# EAGLE library part TX24-100R-6ST-H1E (library EW_Connectors)
CONN RCPT 1.27MM 100POS GOLD PCB
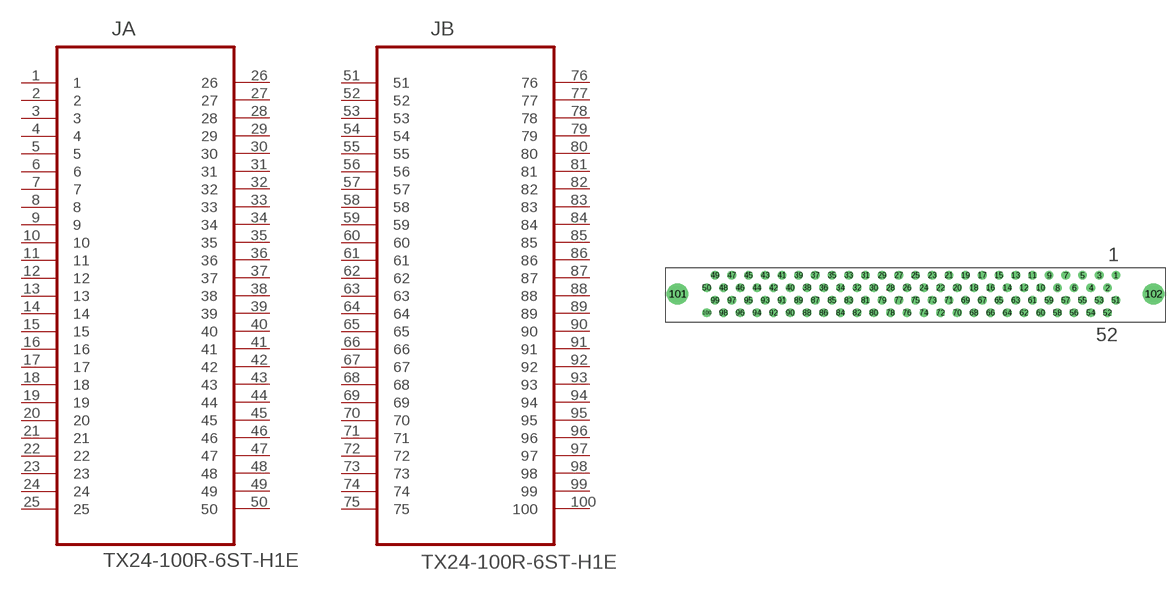
[diagram p40: symbol with the pads of JAE_TX24-100R-6ST-H1E; footprint JAE_TX24-100R-6ST-H1E]

Designator prefix J; gates A=TX24-100R-6ST-H1E_A B=TX24-100R-6ST-H1E_B

## TX24-100R-6ST-H1E (DATASHEETLINK: http://www.jae.com/z-en/pdf_download_exec.cfm?param=SJ038253.pdf; DESCRIPTION: CONN-100POS; MPN: TX24-100R-6ST-H1E; OC_FARNELL: 1519625; OC_NEWARK: 74M4873; ROHS: Yes; SUPPLIER: JAE)  [JAE_TX24-100R-6ST-H1E]
1  A:1  pas
2  A:2  pas
3  A:3  pas
4  A:4  pas
5  A:5  pas
6  A:6  pas
7  A:7  pas
8  A:8  pas
9  A:9  pas
10  A:10  pas
11  A:11  pas
12  A:12  pas
13  A:13  pas
14  A:14  pas
15  A:15  pas
16  A:16  pas
17  A:17  pas
18  A:18  pas
19  A:19  pas
20  A:20  pas
21  A:21  pas
22  A:22  pas
23  A:23  pas
24  A:24  pas
25  A:25  pas
26  A:26  pas
27  A:27  pas
28  A:28  pas
29  A:29  pas
30  A:30  pas
31  A:31  pas
32  A:32  pas
33  A:33  pas
34  A:34  pas
35  A:35  pas
36  A:36  pas
37  A:37  pas
38  A:38  pas
39  A:39  pas
40  A:40  pas
41  A:41  pas
42  A:42  pas
43  A:43  pas
44  A:44  pas
45  A:45  pas
46  A:46  pas
47  A:47  pas
48  A:48  pas
49  A:49  pas
50  A:50  pas
51  B:51  pas
52  B:52  pas
53  B:53  pas
54  B:54  pas
55  B:55  pas
56  B:56  pas
57  B:57  pas
58  B:58  pas
59  B:59  pas
60  B:60  pas
61  B:61  pas
62  B:62  pas
63  B:63  pas
64  B:64  pas
65  B:65  pas
66  B:66  pas
67  B:67  pas
68  B:68  pas
69  B:69  pas
70  B:70  pas
71  B:71  pas
72  B:72  pas
73  B:73  pas
74  B:74  pas
75  B:75  pas
76  B:76  pas
77  B:77  pas
78  B:78  pas
79  B:79  pas
80  B:80  pas
81  B:81  pas
82  B:82  pas
83  B:83  pas
84  B:84  pas
85  B:85  pas
86  B:86  pas
87  B:87  pas
88  B:88  pas
89  B:89  pas
90  B:90  pas
91  B:91  pas
92  B:92  pas
93  B:93  pas
94  B:94  pas
95  B:95  pas
96  B:96  pas
97  B:97  pas
98  B:98  pas
99  B:99  pas
100  B:100  pas

## Footprint JAE_TX24-100R-6ST-H1E (pad centres in mm)
drill 0.813: 1 30.48,-1.143; 2 29.21,-3.048; 3 27.94,-1.143; 4 26.67,-3.048; 5 25.4,-1.143; 6 24.13,-3.048; 7 22.86,-1.143; 8 21.59,-3.048; 9 20.32,-1.143; 10 19.05,-3.048; 11 17.78,-1.143; 12 16.51,-3.048; 13 15.24,-1.143; 14 13.97,-3.048; 15 12.7,-1.143; 16 11.43,-3.048; 17 10.16,-1.143; 18 8.89,-3.048; 19 7.62,-1.143; 20 6.35,-3.048; 21 5.08,-1.143; 22 3.81,-3.048; 23 2.54,-1.143; 24 1.27,-3.048; 25 0,-1.143; 26 -1.27,-3.048; 27 -2.54,-1.143; 28 -3.81,-3.048; 29 -5.08,-1.143; 30 -6.35,-3.048; 31 -7.62,-1.143; 32 -8.89,-3.048; 33 -10.16,-1.143; 34 -11.43,-3.048; 35 -12.7,-1.143; 36 -13.97,-3.048; 37 -15.24,-1.143; 38 -16.51,-3.048; 39 -17.78,-1.143; 40 -19.05,-3.048; 41 -20.32,-1.143; 42 -21.59,-3.048; 43 -22.86,-1.143; 44 -24.13,-3.048; 45 -25.4,-1.143; 46 -26.67,-3.048; 47 -27.94,-1.143; 48 -29.21,-3.048; 49 -30.48,-1.143; 50 -31.75,-3.048; 51 30.48,-4.953; 52 29.21,-6.858; 53 27.94,-4.953; 54 26.67,-6.858; 55 25.4,-4.953; 56 24.13,-6.858; 57 22.86,-4.953; 58 21.59,-6.858; 59 20.32,-4.953; 60 19.05,-6.858; 61 17.78,-4.953; 62 16.51,-6.858; 63 15.24,-4.953; 64 13.97,-6.858; 65 12.7,-4.953; 66 11.43,-6.858; 67 10.16,-4.953; 68 8.89,-6.858; 69 7.62,-4.953; 70 6.35,-6.858; 71 5.08,-4.953; 72 3.81,-6.858; 73 2.54,-4.953; 74 1.27,-6.858; 75 0,-4.953; 76 -1.27,-6.858; 77 -2.54,-4.953; 78 -3.81,-6.858; 79 -5.08,-4.953; 80 -6.35,-6.858; 81 -7.62,-4.953; 82 -8.89,-6.858; 83 -10.16,-4.953; 84 -11.43,-6.858; 85 -12.7,-4.953; 86 -13.97,-6.858; 87 -15.24,-4.953; 88 -16.51,-6.858; 89 -17.78,-4.953; 90 -19.05,-6.858; 91 -20.32,-4.953; 92 -21.59,-6.858; 93 -22.86,-4.953; 94 -24.13,-6.858; 95 -25.4,-4.953; 96 -26.67,-6.858; 97 -27.94,-4.953; 98 -29.21,-6.858; 99 -30.48,-4.953; 100 -31.75,-6.858
drill 2.21: 101 -36.195,-3.988; 102 36.195,-3.988